# Altium footprint library ICL_mechanical_v1.PcbLib: 16 footprints
Each footprint in its own frame and in the unit in brackets; x right, y up, seen from the top. Pads: shape width x height; smd on the part's side, far side on the other; paste and mask are expansions set on the pad; w line width, h text height; cw(c..) or ccw(c..) is an arc to the next point about the centre after c.
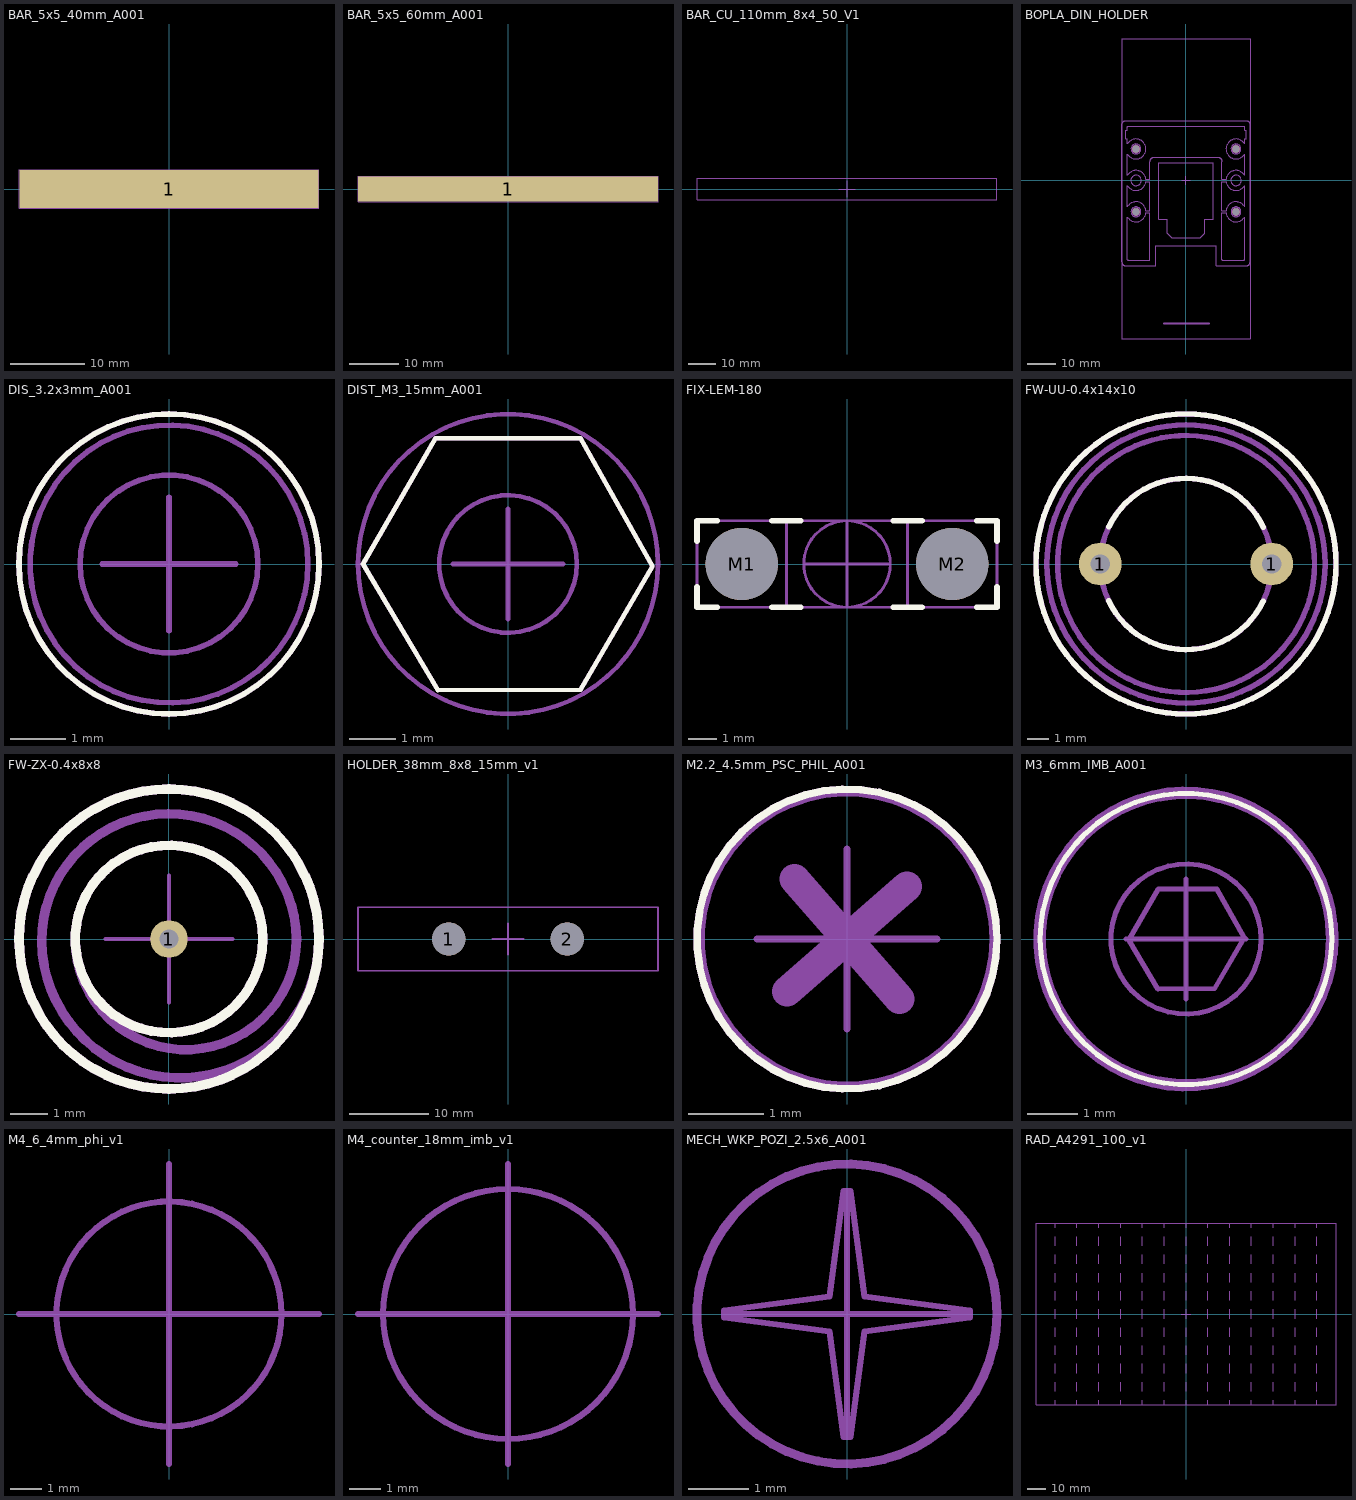
[diagram p0: the footprints below, top view; thin cyan lines are the x and y axes]

## BAR_5x5_40mm_A001 [mm]
pads (1):
  rect 40x5.1 smd: 1(0,0)
Top M11-12_SMOT:
  lines w0.1: -20.1,-2.6 20.1,-2.6 20.1,2.6 -20.1,2.6 -20.1,-2.6
Top M13-14_SDES:
  text "'.Designator'" at -4.732,3.167 h0.8
Top M15-16_SORG:
  lines w0.1: -1,0 0,0 ; 0,-1 0,0 ; 0,1 0,0 ; 1,0 0,0
3D body "bar_5x5_40mm_v1.stp": height 5.01, standoff 0.01, extent -20,-2.5 20,2.5

## BAR_5x5_60mm_A001 [mm]
pads (1):
  rect 60.2x5.1 smd: 1(0,0)
Top M11-12_SMOT:
  lines w0.1: -30.1,-2.6 -30.1,2.6 30.1,2.6 30.1,-2.6 -30.1,-2.6
Top M13-14_SDES:
  text "'.Designator'" at -4.732,3.167 h0.8
Top M15-16_SORG:
  lines w0.1: -1,0 0,0 ; 0,-1 0,0 ; 0,1 0,0 ; 1,0 0,0
3D body "bar_5x5_60mm_v1.stp": height 5.01, standoff 0.01, extent -30,-2.5 30,2.5

## BAR_CU_110mm_8x4_50_V1 [mm]
Top M15-16_SORG:
  lines w0.2: -3.1,0 0,0 ; 0,-3.1 0,0 ; 0,3.1 0,0 ; 3.1,0 0,0 ; -55,-4 55,-4 55,4 -55,4 -55,-4
3D body "cu_bar_110_v1.stp": height 10.1, standoff 6.1, extent -55,-4 55,4

## BOPLA_DIN_HOLDER [mm] "BOPLA 22035000"
pads (4):
  round 2.5 hole 2.5 unplated paste-1.25: M1(-17.5,-11) M1(-17.5,11) M1(17.5,-11) M2(17.5,11)
Top M15-16_SORG:
  lines w0.1: -1.5,0 0,0 ; 0,-1.5 0,0 ; 0,1.5 0,0 ; 1.5,0 0,0 ; -22.5,-55.5 22.5,-55.5 22.5,49.5 -22.5,49.5 -22.5,-55.5
Top M19-20_TMOT:
  drawing of 1273 lines, arcs and shapes, not listed
3D body "BOPLA_22035000.stp": height 10.71, standoff -3.77, extent -22.5,-55.484 22.5,49.516

## DIS_3.2x3mm_A001 [mm]
Top Overlay:
  circle w0.1: c0,0 r2.7
Top M17-18_TDES:
  text "'.Designator'" at -5.725,1.29 h0.8
Top M19-20_TMOT:
  circle w0.1: c0,0 r2.5
  circle w0.1: c0,0 r1.6
Top M25-26_TORG:
  circle w0.1: c0,0 r2.7
  lines w0.1: -1.2,0 0,0 ; 0,-1.2 0,0 ; 0,1.2 0,0 ; 1.2,0 0,0
3D body "dist_3_2x3mm_A01.stp": height 3.01, standoff 0.01, extent -2.5,-2.499 2.499,2.5

## DIST_M3_15mm_A001 [mm]
Top Overlay:
  lines w0.1: -3.16,0 -1.53,-2.75 1.58,-2.737 3.147,-0.05 1.58,2.737 -1.58,2.737 -3.16,0
Top M17-18_TDES:
  text "'.Designator'" at -5.725,1.29 h0.8
Top M19-20_TMOT:
  circle w0.1: c0,0 r1.5
  lines w0.1: -3.16,0 -1.53,-2.75 1.58,-2.737 3.147,-0.05 1.58,2.737 -1.58,2.737 -3.16,0
Top M25-26_TORG:
  circle w0.1: c0,0 r3.268
  lines w0.1: -1.2,0 0,0 ; 0,-1.2 0,0 ; 0,1.2 0,0 ; 1.2,0 0,0
3D body "dist_15mm_m3.stp": height 15.01, standoff -5.99, extent -3.16,-2.75 3.16,2.75

## FIX-LEM-180 [mm] "LED  fiber"
pads (2):
  round 2.5 hole 2.5 unplated paste-1.25: M1(-3.65,0) M2(3.65,0)
Top Overlay:
  lines w0.2: -5.2,-0.8 -5.2,-1.5 -4.5,-1.5 ; -5.2,0.8 -5.2,1.5 -4.5,1.5 ; -2.6,-1.5 -1.6,-1.5 ; -2.6,1.5 -1.6,1.5 ; 1.6,-1.5 2.6,-1.5 ; 1.6,1.5 2.6,1.5 ; 4.5,-1.5 5.2,-1.5 5.2,-0.8 ; 4.5,1.5 5.2,1.5 5.2,0.8
Top M15-16_SORG:
  circle w0.1: c0,0 r1.5
  lines w0.1: -2.1,-1.5 -2.1,1.5 ; -1.5,0 0,0 ; 0,-1.5 0,0 ; 0,1.5 0,0 ; 1.5,0 0,0 ; 2.1,-1.5 2.1,1.5 ; -5.2,-1.5 5.2,-1.5 5.2,1.5 -5.2,1.5 -5.2,-1.5
3D body "FLEX-LEM-180.STEP": height 15.01, standoff -1.99, extent -5.15,-1.5 5.15,1.5

## FW-UU-0.4x14x10 [mm] "spring"
pads (2):
  round 2 hole 0.9: 1(-4,0) 1(4,0)
Top Overlay:
  circle w0.254: c0,0 r7.004
  lines w0.254: -3.617,-1.708 ccw(c0,0) 3.598,-1.748 ; -3.598,1.748 cw(c0,0) 3.617,1.708
Top M19-20_TMOT:
  circle w0.254: c0,0 r6.5
  circle w0.254: c0,0 r7
  circle w0.254: c0,0 r6
  circle w0.254: c0,0 r4
3D body "FW-UU-04-14-10_v01.stp": height 10.4, standoff -3, extent -8.086,-7.87 8.056,7.966

## FW-ZX-0.4x8x8 [mm] "spring CT THT"
pads (1):
  round 1 hole 0.5: 1(0,0)
Top Overlay:
  circle w0.254: c0,0 r2.5
  circle w0.254: c0,0 r4
Top M17-18_TDES:
  text "'.Designator'" at -5.665,3.883 h1
Top M19-20_TMOT:
  circle w0.254: c0,0 r2.5
  circle w0.254: c0,0 r4
  lines w0.254: -2.5,0.001 ccw(c0.45,-0.001) 3.4,-0.006 ccw(c0,-0.059) -3.4,-0.059 ccw(c0.3,-0.002) 4,-0.002
Top M25-26_TORG:
  lines w0.1: -1.7,0 0,0 ; 0,-1.7 0,0 ; 0,1.7 0,0 ; 1.7,0 0,0
3D body "FW-ZX-04x8x8.stp": height 8.41, standoff -1.31, extent -4.135,-4.214 4.324,4.432

## HOLDER_38mm_8x8_15mm_v1 [mm]
pads (2):
  round 4.2 hole 4.2 unplated: 1(-7.5,0) 2(7.5,0)
Top M15-16_SORG:
  lines w0.2: -2,0 0,0 ; 0,-2 0,0 ; 0,2 0,0 ; 2,0 0,0 ; -19,-4 19,-4 19,4 -19,4 -19,-4
3D body "holder_8_8_v2.stp": height 8.01, standoff 0.01, extent -19,-4 19,4

## M2.2_4.5mm_PSC_PHIL_A001 [mm] "plastic screws M2.2 L 4.5mm"
Top Overlay:
  circle w0.1: c0,0 r2
Top M17-18_TDES:
  text "'.Designator'" at -5.725,1.69 h0.6
Top M19-20_TMOT:
  circle w0.1: c0,0 r1.95
  lines w0.4: -0.8,-0.7 0,0 ; -0.7,0.8 0,0 ; 0.7,-0.8 0,0 ; 0.8,0.7 0,0
Top M25-26_TORG:
  circle w0.1: c0,0 r2
  lines w0.1: -1.2,0 0,0 ; 0,-1.2 0,0 ; 0,1.2 0,0 ; 1.2,0 0,0
3D body "BN_13577.stp": height 1.51, standoff -4.59, extent -1.95,-1.95 1.95,1.95

## M3_6mm_IMB_A001 [mm]
Top Overlay:
  circle w0.1: c0,0 r2.915
Top M17-18_TDES:
  text "'.Designator'" at -5.725,1.29 h0.8
Top M19-20_TMOT:
  circle w0.1: c0,0 r1.5
  circle w0.1: c0,0 r2.85
  lines w0.1: -1.143,-0.021 -0.563,-1 0.57,-0.995 1.166,0.027 0.619,1 -0.554,1 -1.143,-0.021
Top M25-26_TORG:
  circle w0.1: c0,0 r3
  lines w0.1: -1.2,0 0,0 ; 0,-1.2 0,0 ; 0,1.2 0,0 ; 1.2,0 0,0
3D body "M3_6_imb_a01.stp": height 1.66, standoff -5.99, extent -2.85,-2.849 2.849,2.85

## M4_6_4mm_phi_v1 [mm]
Top M15-16_SORG:
  circle w0.2: c0,0 r3.6
  lines w0.2: -4.8,0 0,0 ; 0,-4.8 0,0 ; 0,4.8 0,0 ; 4.8,0 0,0
3D body "M4x6_phi_brass_v1.stp": height 2.11, standoff -6.39, extent -3.6,-3.6 3.599,3.599

## M4_counter_18mm_imb_v1 [mm]
Top M15-16_SORG:
  circle w0.2: c0,0 r4
  lines w0.2: -4.8,0 0,0 ; 0,-4.8 0,0 ; 0,4.8 0,0 ; 4.8,0 0,0
3D body "M4_stozek_16mm_imb_czarna_v1.stp": height 2.3, standoff -13.7, extent -4.017,-4.017 4.017,4.017

## MECH_WKP_POZI_2.5x6_A001 [mm] "BOSSARD 3034063"
Top M15-16_SORG:
  circle w0.1: c0,0 r2.5
  lines w0.1: -2,0 2,0 ; 0,-2 0,2
Top M19-20_TMOT:
  circle w0.15: c0,0 r2.5
  lines w0.1: -2.051,-0.057 -2.051,0.057 -0.288,0.288 -0.057,2.051 0.057,2.051 0.288,0.288 2.051,0.057 2.051,-0.057 0.288,-0.288 0.057,-2.051 -0.057,-2.051 -0.288,-0.288 -2.051,-0.057
3D body "Bosard_3034063.stp": height 2.11, standoff -5.99, extent -2.5,-2.5 2.5,2.5

## RAD_A4291_100_v1 [mm]
Top M15-16_SORG:
  drawing of 151 lines, arcs and shapes, not listed
3D body "RAD_A4291_100_prepared_v1.stp": height 35.01, standoff 0.01, extent -82.5,-50 82.5,50